# EAGLE library part MOTOR-3PHASE (library FSAE Electric)
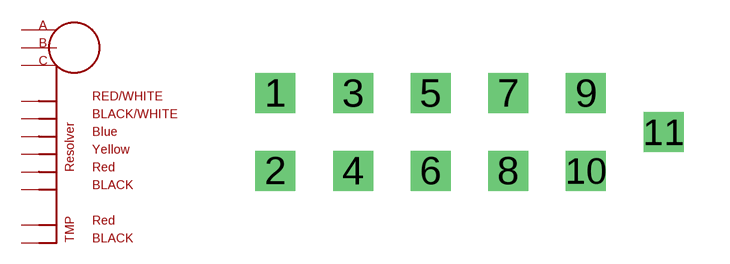
[diagram p51: symbol with the pads of MC3PHASE; footprint MC3PHASE]

Designator prefix M1

## MOTOR-3PHASE  [MC3PHASE]
1  A
2  B
3  C
4  P$4
5  P$5
6  P$6
7  P$7
8  P$8
9  P$9
10  P$10
11  P$11

## Footprint MC3PHASE (pad centres in mm)
drill 0.8 square: 1 -3.81,2.54; 2 -3.81,0; 3 -1.27,2.54; 4 -1.27,0; 5 1.27,2.54; 6 1.27,0; 7 3.81,2.54; 8 3.81,0; 9 6.35,2.54; 10 6.35,0; 11 8.89,1.27